# EAGLE library part FSQ0365RN (library Fairchild_By_element14_Batch_1)
Power Switch
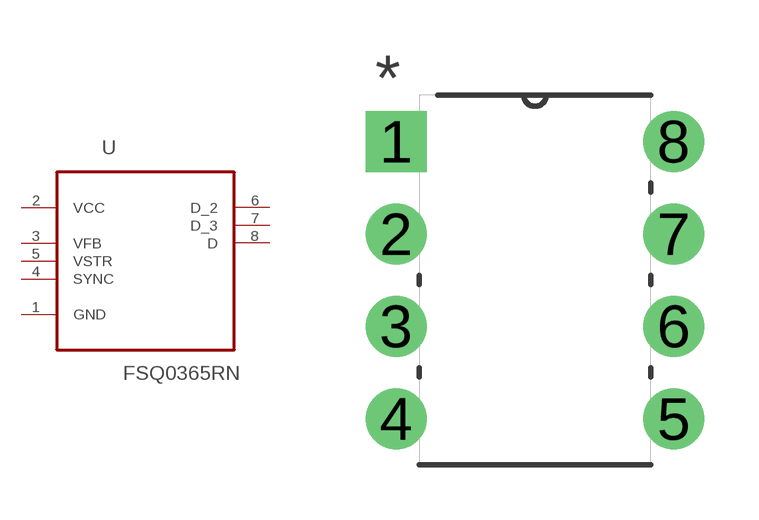
[diagram p194: symbol with the pads of DIP254P762X533-8; footprint DIP254P762X533-8]

Designator prefix U

## FSQ0365RN (MPN: FSQ0365RN; OC_FARNELL: 1421266; OC_NEWARK: 30M0805; PACKAGE: DIP-8; SUPPLIER: Fairchild)  [DIP254P762X533-8]
1  GND  pas
2  VCC  pwr
3  VFB  in
4  SYNC  in
5  VSTR  pwr
6  D_2  pas
7  D_3  pas
8  D  pas

## Footprint DIP254P762X533-8 (pad centres in mm)
drill 1.118 square: 1 -7.62,7.62
drill 1.118: 2 -7.62,5.08; 3 -7.62,2.54; 4 -7.62,0; 5 0,0; 6 0,2.54; 7 0,5.08; 8 0,7.62